# Altium schematic symbol library Sensors.SchLib: 2 symbols
Pins are listed as number, name and electrical type; pins without a type are passive.

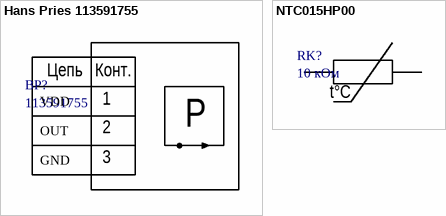
[diagram p0: symbols Hans Pries 113591755 to NTC015HP00]

## Hans Pries 113591755
designator BP?, comment 113591755
Hans Pries 113591755; Manufacture: Topran; Name: Датчик Давления; Case: SOT23-3; HelpURL: https://vw-parts.ru/dvigatel/sistema-kondicionirovaniya/datchik-davleniya-kondicionera-hans-pries-113591755; Model: Hans Pries 113591755; Value: 113591755
pins: 1 VDD, 2 OUT, 3 GND
text: Цепь; Конт.; P

## NTC015HP00
designator RK?, comment 10 кОм
NTC015HP00, Temp Control Cable, NTC Probe, 1.5m; Name: Терморезистор; HelpURL: https://www.chipdip.ru/product/ntc015hp00-temp-control-cable-ntc-p; Model: NTC015HP00; Value: 10 кОм
pins: 1 VDD, 2 Q
text: t°С